# EAGLE library part 12864-06D (library 12864-06D)
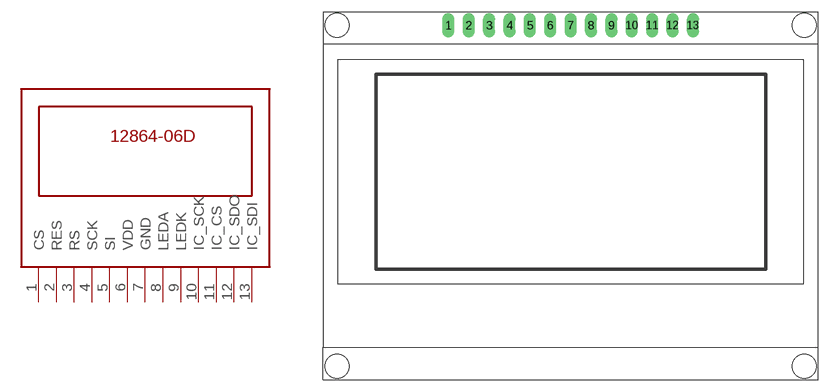
[diagram p0: symbol with the pads of 12864-06D; footprint 12864-06D]

Designator prefix -

## 12864-06D  [12864-06D]
1  CS
2  RES
3  RS
4  SCK
5  SI
6  VDD
7  GND
8  LEDA
9  LEDK
10  IC_SCK
11  IC_CS
12  IC_SDO
13  IC_SDI

## Footprint 12864-06D (pad centres in mm)
drill 1.016 pad 1.524 long: 1 15.66,44.15; 2 18.2,44.15; 3 20.74,44.15; 4 23.28,44.15; 5 25.82,44.15; 6 28.36,44.15; 7 30.9,44.15; 8 33.44,44.15; 9 35.98,44.15; 10 38.52,44.15; 11 41.06,44.15; 12 43.6,44.15; 13 46.14,44.15
hole 3 at 1.75,1.65
hole 3 at 1.75,44.15
hole 3 at 60.05,44.15
hole 3 at 60.05,1.65